# EAGLE library part FH19SC-22S-0.5SH(05) (library senseye-2)
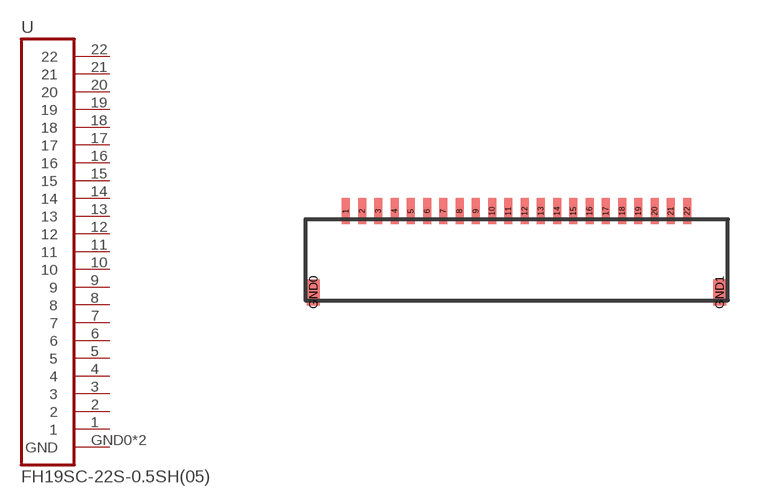
[diagram p2: symbol with the pads of FH19SC-22S-0.5SH(05); footprint FH19SC-22S-0.5SH(05)]

Designator prefix -

## FH19SC-22S-0.5SH(05)  [FH19SC-22S-0.5SH(05)]
1  1  pas
2  2  pas
3  3  pas
4  4  pas
5  5  pas
6  6  pas
7  7  pas
8  8  pas
9  9  pas
10  10  pas
11  11  pas
12  12  pas
13  13  pas
14  14  pas
15  15  pas
16  16  pas
17  17  pas
18  18  pas
19  19  pas
20  20  pas
21  21  pas
22  22  pas
GND0  GND
GND1  GND

## Footprint FH19SC-22S-0.5SH(05) (pad centres in mm)
smd 0.25 x 0.8: 1 -5.25,0; 2 -4.75,0; 3 -4.25,0; 4 -3.75,0; 5 -3.25,0; 6 -2.75,0; 7 -2.25,0; 8 -1.75,0; 9 -1.25,0; 10 -0.75,0; 11 -0.25,0; 12 0.25,0; 13 0.75,0; 14 1.25,0; 15 1.75,0; 16 2.25,0; 17 2.75,0; 18 3.25,0; 19 3.75,0; 20 4.25,0; 21 4.75,0; 22 5.25,0
smd 0.4 x 0.8: GND0 -6.25,-2.5; GND1 6.25,-2.5